# Altium schematic symbol library CXXXX.SchLib: 40 symbols
Pins are listed as number, name and electrical type; pins without a type are passive.

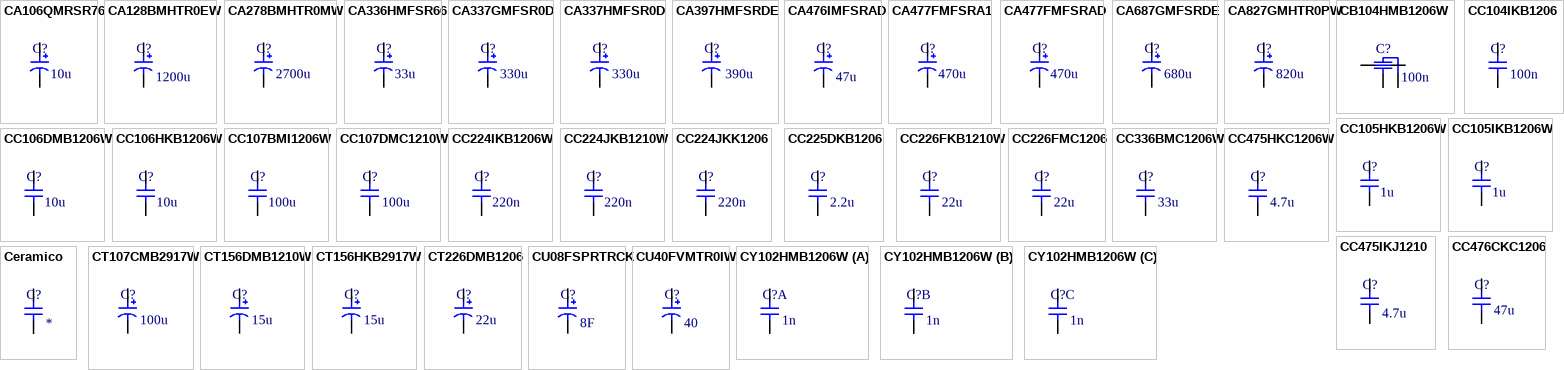
[diagram p0: symbols CA106QMRSR76 to CY102HMB1206W]

## CA106QMRSR76
designator C?  value 10u
10 µF 63 V Aluminum Electrolytic Capacitors Radial, Can - SMD - 2000 Hrs @ 85°C; Manufacturer Part Number: EDK106M063A9GAA; Manufacturer: KEMET; Working Temperature: -40°C ~ 85°C; Temperature Coefficient: NA; Short Description: CAP ALUM 10UF 20% 63V SMD; Power: NC; Ratings: REACH, ROHS3; Type: Aluminium; Tolerance: ±20%; Voltage: 63V; Mounting: SMT; Frequency: NC; Alternate Part Number 1: *; Alternate Part Number 2: *; Current: NC; Revision Date: 23/02/22; Package Reference: Radial
footprint C066x066-032x016(061) (Footprint not found)
pins: 1, 2

## CA128BMHTR0EW
designator C?  value 1200u
1200 µF 6.3 V Aluminum Electrolytic Capacitors Radial, Can - 6000 Hrs @ 105°C; Manufacturer Part Number: EEU-FR0J122B; Manufacturer: Panasonic Electronic Components; Working Temperature: -40°C ~ 105°C; Short Description: CAP ALUM 1200UF 20% 6.3V RADIAL; Power: NC; Ratings: REACH, ROHS3; Tolerance: ±20%; Voltage: 6.3 V; Temperature Coefficient: *; Mounting: THT; Type: *; Frequency: NC; Alternate Part Number 1: *; Alternate Part Number 2: *; Current: NC; Revision Date: 15/11/21; Package Reference: *
footprint C_THRAD_020x008x050
pins: 1, 2

## CA278BMHTR0MW
designator C?  value 2700u
2700 µF 6.3 V Aluminum Electrolytic Capacitors Radial, Can - 10000 Hrs @ 105°C; Manufacturer Part Number: UHW0J272MPD; Manufacturer: Nichicon; Working Temperature: -40°C ~ 105°C; Temperature Coefficient: NC; Short Description: CAP ALUM 2700UF 20% 6.3V RADIAL; Ratings: REACH, ROHS3; Type: Aluminium; Tolerance: ±20%; Voltage: 6.3V; Mounting: THT; Power: NC; Frequency: NC; Alternate Part Number 1: *; Alternate Part Number 2: *; Current: NC; Revision Date: 12/11/21; Package Reference: Radial
footprint C_THRAD_020x008x050
pins: 1, 2

## CA336HMFSR66
designator C?  value 33u
33 µF 50 V Aluminum Electrolytic Capacitors Radial, Can - SMD 880mOhm @ 100kHz 2000 Hrs @ 105°C; Manufacturer Part Number: EEE-FN1H330L; Manufacturer: Panasonic Electronic Components; Working Temperature: -55°C ~ 105°C; Temperature Coefficient: NA; Short Description: CAP ALUM 33UF 20% 50V SMD; Power: NC; Ratings: REACH, ROHS3, AEQ-200; Type: Aluminium; Tolerance: ±20%; Voltage: 50V; Mounting: SMT; Frequency: NC; Alternate Part Number 1: *; Alternate Part Number 2: *; Current: NC; Revision Date: 20/09/21; Package Reference: Radial
footprint C066x066-032x016(061) (Footprint not found)
pins: 1, 2

## CA337GMFSR0D
designator C?  value 330u
330 µF 35 V Aluminum Electrolytic Capacitors Radial, Can - SMD - 2000 Hrs @ 105°C; Manufacturer Part Number: EEE-FK1V331AP; Manufacturer: Panasonic Electronic Components; Working Temperature: -55°C ~ 105°C; Temperature Coefficient: NA; Short Description: CAP ALUM 330UF 20% 35V SMD; Power: NC; Ratings: REACH, ROHS3, AEQ-200; Type: Aluminium; Tolerance: ±20%; Voltage: 35V; Mounting: SMT; Frequency: NC; Alternate Part Number 1: *; Alternate Part Number 2: *; Current: NC; Revision Date: 22/12/21; Package Reference: Radial
footprint C103x103-041x020(105) (Footprint not found)
pins: 1, 2

## CA337HMFSR0D
designator C?  value 330u
330 µF 50 V Aluminum Electrolytic Capacitors Radial, Can - SMD 120mOhm @ 100kHz 2000 Hrs @ 105°C; Manufacturer Part Number: EEE-FT1H331AP; Manufacturer: Panasonic Electronic Components; Working Temperature: -55°C ~ 105°C; Temperature Coefficient: NA; Short Description: CAP ALUM 330UF 20% 50V SMD; Power: NC; Ratings: REACH, ROHS3, AEQ-200; Type: Aluminium; Tolerance: ±20%; Voltage: 50V; Mounting: SMT; Frequency: NC; Alternate Part Number 1: *; Alternate Part Number 2: *; Current: NC; Revision Date: 03/08/21; Package Reference: Radial
footprint C103x103-041x020(105) (Footprint not found)
pins: 1, 2

## CA397HMFSRDE
designator C?  value 390u
390 µF 50 V Aluminum Electrolytic Capacitors Radial, Can - SMD - 5000 Hrs @ 105°C; Manufacturer Part Number: EEV-FK1H391Q; Manufacturer: Panasonic Electronic Components; Working Temperature: -55°C ~ 105°C; Temperature Coefficient: NC; Short Description: CAP ALUM 390UF 20% 50V SMD; Ratings: REACH, ROHS3, AEQ-200; Type: Aluminium; Tolerance: ±20%; Voltage: 50V; Mounting: SMT; Power: NC; Frequency: NC; Alternate Part Number 1: *; Alternate Part Number 2: *; Current: NC; Revision Date: 03/08/21; Package Reference: Radial
footprint C135x135-057x020(138) (Footprint not found)
pins: 1, 2

## CA476IMFSRAD
designator C?  value 47u
47 µF 100 V Aluminum Electrolytic Capacitors Radial, Can - SMD 700mOhm @ 100kHz 2000 Hrs @ 105°C; Manufacturer Part Number: EEE-FN2A470UP; Manufacturer: Panasonic Electronic Components; Working Temperature: -55°C ~ 105°C; Temperature Coefficient: NC; Short Description: CAP ALUM 47UF 20% 100V SMD; Ratings: REACH, ROHS3, AEC-Q200; Type: Aluminium; Tolerance: ±20%; Voltage: 100V; Mounting: SMT; Power: NC; Frequency: NC; Alternate Part Number 1: *; Alternate Part Number 2: *; Current: NC; Revision Date: 02/09/21; Package Reference: Radial
footprint C103x103-041x020(105)
pins: 1, 2

## CA477FMFSRA1
designator C?  value 470u
470 µF 25 V Aluminum Electrolytic Capacitors Radial, Can - SMD - 2000 Hrs @ 105°C; Manufacturer Part Number: EEE-FK1E471P; Manufacturer: Panasonic Electronic Components; Working Temperature: -55°C ~ 105°C; Temperature Coefficient: NA; Short Description: CAP ALUM 470UF 20% 25V SMD; Power: NC; Ratings: REACH, ROHS3, AEQ-200; Type: Aluminium; Tolerance: ±20%; Voltage: 25V; Mounting: SMT; Frequency: NC; Alternate Part Number 1: *; Alternate Part Number 2: *; Current: NC; Revision Date: 03/08/21; Package Reference: Radial
footprint C103x103-041x020(105) (Footprint not found)
pins: 1, 2

## CA477FMFSRAD
designator C?  value 470u
470 µF 25 V Aluminum Electrolytic Capacitors Radial, Can - SMD 80mOhm @ 100kHz 5000 Hrs @ 105°C; Manufacturer Part Number: EEE-FT1E471GP; Manufacturer: Panasonic Electronic Components; Working Temperature: -55°C ~ 105°C; Temperature Coefficient: NA; Short Description: CAP ALUM 470UF 20% 25V SMD; Power: NC; Ratings: REACH, ROHS3, AEQ-200; Type: Aluminium; Tolerance: ±20%; Voltage: 25V; Mounting: SMT; Frequency: NC; Alternate Part Number 1: *; Alternate Part Number 2: *; Current: NC; Revision Date: 03/08/21; Package Reference: Radial
footprint C083x083-040x020(105) (Footprint not found)
pins: 1, 2

## CA687GMFSRDE
designator C?  value 680u
680 µF 35 V Aluminum Electrolytic Capacitors Radial, Can - SMD - 5000 Hrs @ 105°C; Manufacturer Part Number: EEV-FK1V681Q; Manufacturer: Panasonic Electronic Components; Working Temperature: -55°C ~ 105°C; Temperature Coefficient: NC; Short Description: CAP ALUM 680UF 20% 35V SMD; Ratings: REACH, ROHS3, AEQ-200; Type: Aluminium; Tolerance: ±20%; Voltage: 35V; Mounting: SMT; Power: NC; Frequency: NC; Alternate Part Number 1: *; Alternate Part Number 2: *; Current: NC; Revision Date: 22/12/21; Package Reference: Radial
footprint C135x135-057x020(138) (Footprint not found)
pins: 1, 2

## CA827GMHTR0PW
designator C?  value 820u
820 µF 35 V Aluminum Electrolytic Capacitors Radial, Can - 10000 Hrs @ 105°C; Manufacturer Part Number: UHW1V821MPD; Manufacturer: Nichicon; Working Temperature: -40°C ~ 105°C; Temperature Coefficient: NC; Short Description: CAP ALUM 820UF 20% 35V RADIAL; Ratings: REACH, ROHS3; Type: Aluminium; Tolerance: ±20%; Voltage: 35V; Mounting: THT; Power: NC; Frequency: NC; Alternate Part Number 1: *; Alternate Part Number 2: *; Current: NC; Revision Date: 14/10/21; Package Reference: Radial
footprint C_THRAD_020x008x050
pins: 1, 2

## CB104HMB1206W
designator C?  value 100n
0.1 µF ±20% 50V Ceramic Capacitor X7R 1206 (3216 Metric); Manufacturer Part Number: 500X18W104MV4E; Manufacturer: Johanson Dielectrics Inc.; Working Temperature: -55°C ~ 125°C; Short Description: CAP CER 0.1UF 50V X7R 1206; Power: NC; Ratings: ROHS3, REACH; Type: X2Y; Current: ND; Temperature Coefficient: X7R; Mounting: SMT; Frequency: NC; Alternate Part Number 1: *; Alternate Part Number 2: *; Tolerance: 20%; Revision Date: 15/10/21; Package Reference: 1206; Voltage: 50V
footprint C0805-4PC
pins: 1, 2, 3, 4

## CC104IKB1206
designator C?  value 100n
100 nF ±10% 100V Ceramic Capacitor X7R 1206 (3216 Metric); Manufacturer Part Number: 12061C104K4T2A; Manufacturer: AVX Corporation; Working Temperature: -55°C ~ 125°C; Short Description: CAP CER 0.1UF 100V X7R 1206; Power: NC; Ratings: REACH, ROHS3, AEQ-200; Type: MLCC; Temperature Coefficient: X7R; Mounting: SMT; Frequency: NC; Alternate Part Number 1: *; Alternate Part Number 2: *; Tolerance: ±10%; Current: NC; Revision Date: 03/08/21; Package Reference: 1206; Voltage: 100V
footprint C1206 (Footprint not found)
pins: 1, 2

## CC105HKB1206W
designator C?  value 1u
1 µF ±10% 50V Ceramic Capacitor X7R 1206 (3216 Metric); Manufacturer Part Number: GRM31CR71H105KA61L; Manufacturer: Murata Electronics; Working Temperature: -55°C ~ 125°C; Short Description: CAP CER 1UF 50V X7R 1206; Power: NC; Ratings: REACH, ROHS3; Type: MLCC; Temperature Coefficient: X7R; Mounting: SMT; Frequency: NC; Alternate Part Number 1: *; Alternate Part Number 2: *; Tolerance: ±10%; Current: NC; Revision Date: 03/08/21; Package Reference: 1206; Voltage: 50V
footprint C1206 (Footprint not found)
pins: 1, 2

## CC105IKB1206W
designator C?  value 1u
1 µF ±10% 100V Ceramic Capacitor X7R 1206 (3216 Metric); Manufacturer Part Number: C3216X7R2A105K160AA; Manufacturer: TDK Corporation; Working Temperature: -55°C ~ 125°C; Short Description: CAP CER 1UF 100V X7R 1206; Power: NC; Ratings: REACH, ROHS3; Type: MLCC; Temperature Coefficient: X7R; Mounting: SMT; Frequency: NC; Alternate Part Number 1: *; Alternate Part Number 2: *; Tolerance: ±10%; Current: NC; Revision Date: 03/08/21; Package Reference: 1206; Voltage: 100V
footprint C1206 (Footprint not found)
pins: 1, 2

## CC106DMB1206W
designator C?  value 10u
10 µF ±20% 16V Ceramic Capacitor X7R 1206 (3216 Metric); Manufacturer Part Number: C3216X7R1C106M; Manufacturer: Samsung Electro-Mechanics; Working Temperature: -55°C ~ 125°C; Short Description: CAP CER 10UF 16V X7R 1206; Power: NC; Ratings: REACH, ROHS3; Type: MLCC; Tolerance: ±10%; Temperature Coefficient: X7R; Mounting: SMT; Frequency: NC; Alternate Part Number 1: *; Alternate Part Number 2: *; Current: NC; Revision Date: 12/11/21; Package Reference: 1206; Voltage: 16V
footprint C1206 (Footprint not found)
pins: 1, 2

## CC106HKB1206W
designator C?  value 10u
10 µF ±10% 50V Ceramic Capacitor X7R 1206 (3216 Metric); Manufacturer Part Number: CL31B106KBHNNNE; Manufacturer: Samsung Electro-Mechanics; Working Temperature: -55°C ~ 125°C; Short Description: CAP CER 10UF 50V X7R 1206; Power: NC; Ratings: REACH, ROHS3; Type: MLCC; Temperature Coefficient: X7R; Mounting: SMT; Frequency: NC; Alternate Part Number 1: *; Alternate Part Number 2: *; Tolerance: ±10%; Current: NC; Revision Date: 03/08/21; Package Reference: 1206; Voltage: 50V
footprint C1206 (Footprint not found)
pins: 1, 2

## CC107BMI1206W
designator C?  value 100u
100 µF ±20% 6.3V Ceramic Capacitor X6T 1206 (3216 Metric); Manufacturer Part Number: GRM31CD80J107ME39L; Manufacturer: Murata Electronics; Working Temperature: -55°C ~ 105°C; Short Description: CAP CER 100UF 6.3V X6T 1206; Power: NC; Ratings: REACH, ROHS3; Type: MLCC; Temperature Coefficient: X6T; Mounting: SMT; Frequency: NC; Alternate Part Number 1: *; Alternate Part Number 2: *; Tolerance: ±20%; Current: NC; Revision Date: 03/08/21; Package Reference: 1206; Voltage: 6.3V
footprint C1206 (Footprint not found)
pins: 1, 2

## CC107DMC1210W
designator C?  value 100u
100 µF ±20% 16V Ceramic Capacitor X5R 1210 (3225 Metric); Manufacturer Part Number: GMC32X5R107M16NT; Manufacturer: CAL-CHIP ELECTRONICS, INC.; Working Temperature: -55°C ~ 85°C; Short Description: CAP CER 100UF 16V X5R 1210; Power: NC; Ratings: REACH, ROHS3; Type: MLCC; Temperature Coefficient: X5R; Mounting: SMT; Frequency: NC; Alternate Part Number 1: *; Alternate Part Number 2: *; Tolerance: ±20%; Current: NC; Revision Date: 15/10/21; Package Reference: 1210; Voltage: 16V
footprint C1210
pins: 1, 2

## CC224IKB1206W
designator C?  value 220n
220 nF ±10% 100V Ceramic Capacitor X7R 1206 (3216 Metric); Manufacturer Part Number: C3216X7R2A224K115AE; Manufacturer: TDK Corporation; Working Temperature: -55°C ~ 125°C; Short Description: CAP CER 0.22UF 100V X7R 1206; Power: NC; Ratings: REACH, ROHS3; Type: MLCC; Temperature Coefficient: X7R; Mounting: SMT; Frequency: NC; Alternate Part Number 1: *; Alternate Part Number 2: *; Tolerance: ±10%; Current: NC; Revision Date: 03/08/21; Package Reference: 1206; Voltage: 100V
footprint C1206 (Footprint not found)
pins: 1, 2

## CC224JKB1210W
designator C?  value 220n
220 nF ±10% 200V Ceramic Capacitor X7R 1210 (3225 Metric); Manufacturer Part Number: GRM32DR72D224KW01L; Manufacturer: Murata Electronics; Working Temperature: -55°C ~ 125°C; Short Description: CAP CER 0.22UF 200V X7R 1210; Power: NC; Ratings: REACH, ROHS3; Type: MLCC; Temperature Coefficient: X7R; Mounting: SMT; Frequency: NC; Alternate Part Number 1: *; Alternate Part Number 2: *; Tolerance: ±10%; Current: NC; Revision Date: 03/08/21; Package Reference: 1210; Voltage: 200V
footprint C1210 (Footprint not found)
pins: 1, 2

## CC224JKK1206
designator C?  value 220n
220 nF ±10% 200V Ceramic Capacitor X7T 1206 (3216 Metric); Manufacturer Part Number: CGJ5L3X7T2D224K160AA; Manufacturer: TDK Corporation; Working Temperature: -55°C ~ 125°C; Short Description: CAP CER 0.22UF 200V X7T 1206; Power: NC; Ratings: REACH, ROHS3, AEQ-200; Type: MLCC; Temperature Coefficient: X7T; Mounting: SMT; Frequency: NC; Alternate Part Number 1: *; Alternate Part Number 2: *; Tolerance: ±10%; Current: NC; Revision Date: 03/08/21; Package Reference: 1206; Voltage: 200V
footprint C1206 (Footprint not found)
pins: 1, 2

## CC225DKB1206
designator C?  value 2.2u
2.2 µF ±10% 16V Ceramic Capacitor X7R 1206 (3216 Metric); Manufacturer Part Number: C3216X7R1C225K; Manufacturer: TDK Corporation; Working Temperature: -55°C ~ 125°C; Short Description: CAP CER 2.2UF 16V X7R 1206; Power: NC; Ratings: REACH, ROHS3, AEQ-200; Type: MLCC; Temperature Coefficient: X7R; Mounting: SMT; Frequency: NC; Alternate Part Number 1: *; Alternate Part Number 2: *; Tolerance: ±10%; Current: NC; Revision Date: 03/08/21; Package Reference: 1206; Voltage: 16V
footprint C1206 (Footprint not found)
pins: 1, 2

## CC226FKB1210W
designator C?  value 22u
22 uF ±10% 25V Ceramic Capacitor X7R 1210 (3225 Metric); Manufacturer Part Number: CL32B226KAJNNNE; Manufacturer: Samsung Electro-Mechanics; Working Temperature: -55°C ~ 125°C; Short Description: CAP CER 22UF 25V X7R 1210; Power: NC; Ratings: REACH, ROHS3; Type: MLCC; Temperature Coefficient: X7R; Mounting: SMT; Frequency: NC; Alternate Part Number 1: *; Alternate Part Number 2: *; Tolerance: ±10%; Current: NC; Revision Date: 02/09/21; Package Reference: 1210; Voltage: 25V
footprint C1206 (Footprint not found)
pins: 1, 2

## CC226FMC1206
designator C?  value 22u
22 µF ±20% 25V Ceramic Capacitor X5R 1206 (3216 Metric); Manufacturer Part Number: GRT31CR61E226ME01L; Manufacturer: Murata Electronics; Working Temperature: -55°C ~ 85°C; Short Description: CAP CER 22UF 25V X5R 1206; Power: NC; Ratings: REACH, ROHS3, AEQ-200; Type: MLCC; Temperature Coefficient: X5R; Mounting: SMT; Frequency: NC; Alternate Part Number 1: *; Alternate Part Number 2: *; Tolerance: ±20%; Current: NC; Revision Date: 03/08/21; Package Reference: 1206; Voltage: 25V
footprint C1206 (Footprint not found)
pins: 1, 2

## CC336BMC1206W
designator C?  value 33u
33 µF ±20% 6.3V Ceramic Capacitor X5R 1206 (3216 Metric); Manufacturer Part Number: C3216X5R0J336M; Manufacturer: TDK Corporation; Working Temperature: -55°C ~ 85°C; Short Description: CAP CER 33UF 6.3V X5R 1206; Power: NC; Ratings: REACH, ROHS3; Type: MLCC; Temperature Coefficient: X5R; Mounting: SMT; Frequency: NC; Alternate Part Number 1: *; Alternate Part Number 2: *; Tolerance: ±20%; Current: NC; Revision Date: 03/08/21; Package Reference: 1206; Voltage: 6.3V
footprint C1206 (Footprint not found)
pins: 1, 2

## CC475HKC1206W
designator C?  value 4.7u
4.7 µF ±10% 50V Ceramic Capacitor X5R 1206 (3216 Metric); Manufacturer Part Number: UMK316BJ475KL-T; Manufacturer: Taiyo Yuden; Working Temperature: -55°C ~ 85°C; Short Description: CAP CER 4.7UF 50V X5R 1206; Power: NC; Ratings: REACH, ROHS3; Type: MLCC; Temperature Coefficient: X5R; Mounting: SMT; Frequency: NC; Alternate Part Number 1: *; Alternate Part Number 2: *; Tolerance: ±10%; Current: NC; Revision Date: 03/08/21; Package Reference: 1206; Voltage: 50V
footprint C1206 (Footprint not found)
pins: 1, 2

## CC475IKJ1210
designator C?  value 4.7u
4.7 µF ±10% 100V Ceramic Capacitor X7S 1210 (3225 Metric); Manufacturer Part Number: HMR325AC7475KM-P; Manufacturer: Taiyo Yuden; Working Temperature: -55°C ~ 125°C; Short Description: CAP MLCC 4.7UF 10% 100V X7S 1210; Power: NC; Ratings: ROHS3, AEC-Q200; Type: MLCC; Temperature Coefficient: X7S; Mounting: SMT; Frequency: NC; Alternate Part Number 1: *; Alternate Part Number 2: *; Tolerance: ±10%; Current: NC; Revision Date: 02/09/21; Package Reference: 1210; Voltage: 100V
footprint C1210
pins: 1, 2

## CC476CKC1206
designator C?  value 47u
47 µF ±10% 10V Ceramic Capacitor X5R 1206 (3216 Metric); Manufacturer Part Number: GRT31CR61A476KE13L; Manufacturer: Murata Electronics; Working Temperature: -55°C ~ 85°C; Short Description: CAP CER 47UF 10V X5R 1206; Power: NC; Ratings: REACH, ROHS3, AEQ-200; Type: MLCC; Temperature Coefficient: X5R; Mounting: SMT; Frequency: NC; Alternate Part Number 1: *; Alternate Part Number 2: *; Tolerance: ±10%; Current: NC; Revision Date: 03/08/21; Package Reference: 1206; Voltage: 10V
footprint C1206 (Footprint not found)
pins: 1, 2

## Ceramico
designator C?
Power: NC; Manufacturer Part Number: *; Working Temperature: *; Temperature Coefficient: *; Mounting: SMT; Short Description: *; Ratings: *; Type: *; Frequency: NC; Alternate Part Number 1: *; Alternate Part Number 2: *; Manufacturer: *; Tolerance: *; Current: NC; Revision Date: 03/08/21; Package Reference: *; Voltage: *; Value: *
pins: 1, 2

## CT107CMB2917W
designator C?  value 100u
100 µF Molded Tantalum Capacitors 10 V 2917 (7343 Metric) 100mOhm; Manufacturer Part Number: F911A107MNC; Manufacturer: AVX Corporation; Working Temperature: -55°C ~ 125°C; Temperature Coefficient: X7R; Short Description: CAP TANT 100UF 20% 10V 2917; Power: NC; Ratings: REACH, ROHS3; Tolerance: ±20%; Voltage: 10V; Mounting: SMT; Type: Tantalum; Frequency: NC; Alternate Part Number 1: *; Alternate Part Number 2: *; Current: NC; Revision Date: 03/08/21; Package Reference: 2917
footprint C2917 (Footprint not found)
pins: 1, 2

## CT156DMB1210W
designator C?, comment value 15u  (hidden comment: C1210 compatible)
15 µF Molded Tantalum Capacitors 16 V 1411 (3528 Metric) 2Ohm @ 100kHz; Manufacturer Part Number: F931C156MBA; Manufacturer: AVX Corporation; Working Temperature: -55°C ~ 125°C; Temperature Coefficient: X7R; Short Description: CAP TANT 15UF 20% 16V 1411; Power: NC; Ratings: REACH, ROHS3; Tolerance: ±20%; Voltage: 16V; Mounting: SMT; Type: Tantalum; Frequency: NC; Alternate Part Number 1: *; Alternate Part Number 2: *; Current: NC; Revision Date: 03/08/21; Package Reference: 3528
footprint C1411P (Footprint not found)
pins: 1, 2

## CT156HKB2917W
designator C?  value 15u
15 µF Molded Tantalum Capacitors 50 V 2917 (7343 Metric) 300mOhm; Manufacturer Part Number: T495X156K050ATE300; Manufacturer: KEMET; Working Temperature: -55°C ~ 125°C; Temperature Coefficient: X7R; Short Description: CAP TANT 15UF 10% 50V 2917; Power: NC; Ratings: REACH, ROHS3; Tolerance: ±10%; Voltage: 50V; Mounting: SMT; Type: Tantalum; Frequency: NC; Alternate Part Number 1: *; Alternate Part Number 2: *; Current: NC; Revision Date: 03/08/21; Package Reference: 2917
footprint C2917 (Footprint not found)
pins: 1, 2

## CT226DMB1206
designator C?  value 22u
22 µF Molded Tantalum Capacitors 16 V 1206 (3216 Metric) 3Ohm @ 100kHz; Manufacturer Part Number: F931C226MAAAJ6; Manufacturer: AVX Corporation; Working Temperature: -55°C ~ 125°C; Temperature Coefficient: X7R; Short Description: CAP TANT 22UF 20% 16V 1206; Power: NC; Ratings: REACH, ROHS3, AEQ-200; Type: Tantalium; Tolerance: ±20%; Voltage: 16V; Mounting: SMT; Frequency: NC; Alternate Part Number 1: *; Alternate Part Number 2: *; Current: NC; Revision Date: 03/08/21; Package Reference: 1206
footprint C1206P (Footprint not found)
pins: 1, 2

## CU08FSPRTRCK
designator C?  value 8F
8 F (EDLC) Supercapacitor 3 V @ 65°C / 2.6 V @ 85°C Radial,  29 mOhm @ 1kHz 1000 Hrs @ 85°C; Manufacturer Part Number: MAL223551014E3; Manufacturer: Vishay; Working Temperature: -15°C ~ 85°C; Temperature Coefficient: NC; Short Description: CAP EDLC-HVR 3V 8F 12.5X20; Ratings: ROHS3; Tolerance: ±20%; Voltage: 3V; Mounting: THT; Power: NC; Type: Supercapacitor; Frequency: NC; Alternate Part Number 1: *; Alternate Part Number 2: *; Current: NC; Revision Date: 24/11/21; Package Reference: THT
footprint C_THRAD_012x020x005
pins: 1, 2

## CU40FVMTR0IW
designator C?  value 40
40 F (EDLC) Supercapacitor 3.8 V Radial, Can 250mOhm @ 1kHz 1000 Hrs @ 70°C; Manufacturer Part Number: VMF406M3R8; Manufacturer: Cornell Dubilier Electronics (CDE); Working Temperature: -15°C ~ 85°C; Temperature Coefficient: NC; Short Description: CAP EDLC LITH 3.8V 40F 10X16; Ratings: ROHS3; Tolerance: ±20%; Voltage: 3.8V; Mounting: THT; Power: NC; Type: Supercapacitor; Frequency: NC; Alternate Part Number 1: *; Alternate Part Number 2: *; Current: NC; Revision Date: 24/11/21; Package Reference: THT
footprint C_THRAD_020x008x050
pins: 1, 2

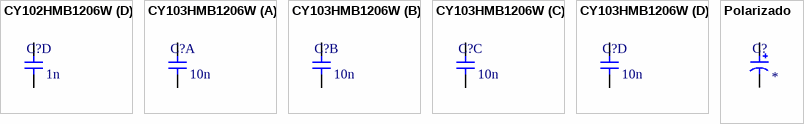
[diagram p1: symbols CY102HMB1206W to Polarizado]

## CY102HMB1206W
designator C?  value 1n
1 nF Isolated Capacitor 4 Array 50 V X7R 1206 (3216 Metric); Manufacturer Part Number: CKCA43X7R1H102M100AA; Manufacturer: TDK Corporation; Working Temperature: ND; Short Description: CAP ARRAY 1000PF 50V X7R 1206; Power: NC; Ratings: REACH, ROHS3; Type: MLCC; Tolerance: ±20%; Voltage: 50V; Temperature Coefficient: X7R; Mounting: SMT; Frequency: NC; Alternate Part Number 1: *; Alternate Part Number 2: *; Current: NC; Revision Date: 03/08/21; Package Reference: 1206
footprint C1206A (Footprint not found)
part A pins: 1, 8
part B pins: 2, 7
part C pins: 3, 6
part D pins: 4, 5

## CY103HMB1206W
designator C?  value 10n
10 nF Isolated Capacitor 4 Array 50 V X7R 1206 (3216 Metric); Manufacturer Part Number: CKCA43X7R1H103M100AA; Manufacturer: TDK Corporation; Working Temperature: ND; Short Description: CAP ARRAY 10000PF 50V X7R 1206; Power: NC; Ratings: REACH, ROHS3; Type: MLCC; Tolerance: ±20%; Voltage: 50V; Temperature Coefficient: X7R; Mounting: SMT; Frequency: NC; Alternate Part Number 1: *; Alternate Part Number 2: *; Current: NC; Revision Date: 03/08/21; Package Reference: 1206
footprint C1206A (Footprint not found)
part A pins: 1, 8
part B pins: 2, 7
part C pins: 3, 6
part D pins: 4, 5

## Polarizado
designator C?
Power: NC; Manufacturer Part Number: *; Working Temperature: *; Temperature Coefficient: *; Mounting: SMT; Short Description: *; Ratings: *; Type: *; Frequency: NC; Alternate Part Number 1: *; Alternate Part Number 2: *; Manufacturer: *; Tolerance: *; Current: NC; Revision Date: 03/08/21; Package Reference: *; Voltage: *; Value: *
pins: 1, 2